# Altium integrated library soil_moisture_PCB.IntLib: 1 symbol
Pins are listed as number, name and electrical type; pins without a type are passive.

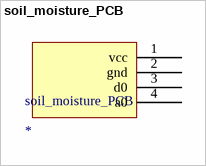
[diagram p0: symbol soil_moisture_PCB]

## soil_moisture_PCB
designator soil_moisture_PCB
footprint soil_moisture_PCB
pins: 1 vcc, 2 gnd, 3 d0, 4 a0